# Altium footprint library Miscellaneous Connector PCB.PcbLib: 180 footprints (part 11 of 12)
Each footprint in its own frame and in the unit in brackets; x right, y up, seen from the top. Pads: shape width x height; smd on the part's side, far side on the other; paste and mask are expansions set on the pad; w line width, h text height; cw(c..) or ccw(c..) is an arc to the next point about the centre after c.
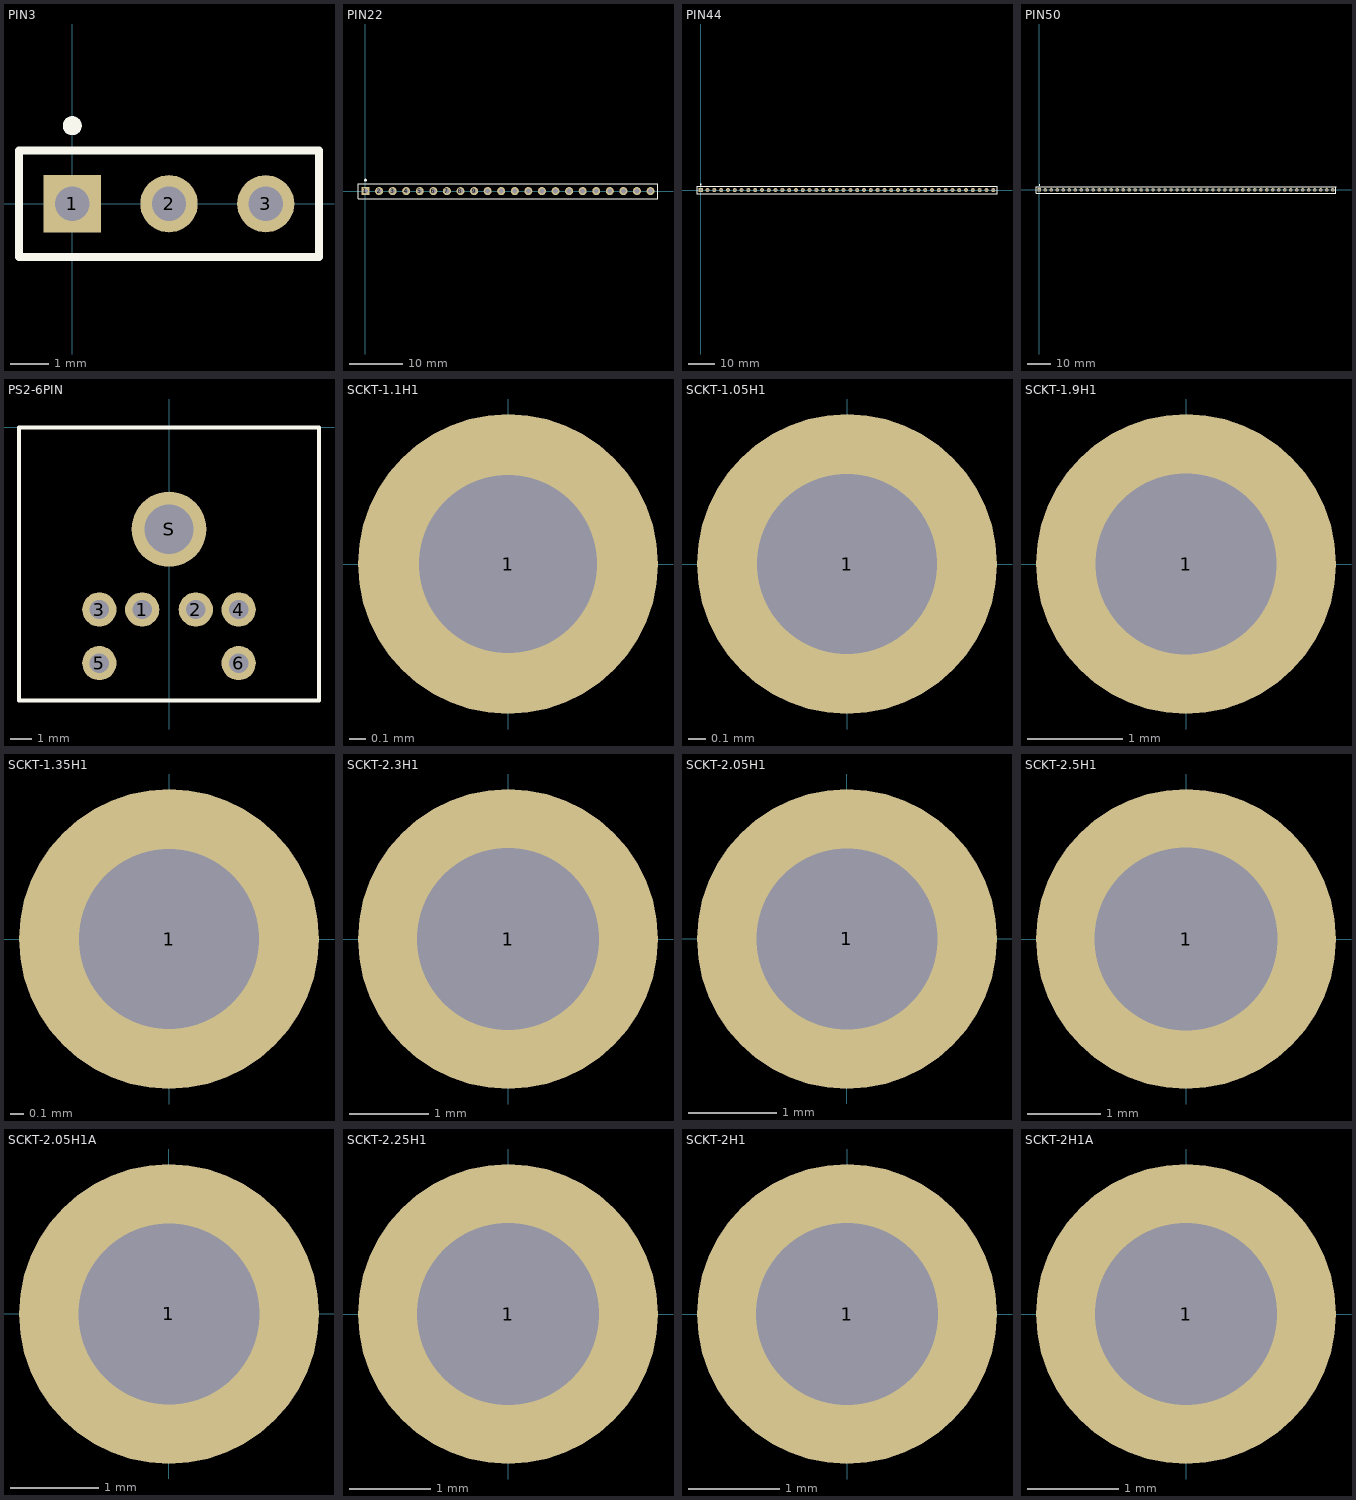
[diagram p10: the footprints below, top view; thin cyan lines are the x and y axes]

## PIN3 [mm]
pads (3):
  rect 1.5x1.5 hole 0.9: 1(0,0)
  oval 1.51x1.5 hole 0.9: 2(2.54,0)
  round 1.5 hole 0.9: 3(5.08,0)
Top Overlay:
  circle w0.25: c0,2.05 r0.125
  lines w0.2: -1.4,-1.4 6.48,-1.4 6.48,1.4 -1.4,1.4 -1.4,-1.4

## PIN22 [mm]
pads (22):
  rect 1.5x1.5 hole 0.9: 1(0,0)
  round 1.5 hole 0.9: 2(2.54,0) 3(5.08,0) 4(7.62,0) 5(10.16,0) 6(12.7,0) 7(15.24,0) 8(17.78,0) 10(22.86,0) 11(25.4,0) 12(27.94,0) 13(30.48,0) 14(33.02,0) 15(35.56,0) 16(38.1,0) 17(40.64,0) 18(43.18,0) 19(45.72,0) 20(48.26,0) 21(50.8,0) 22(53.34,0)
  oval 1.51x1.5 hole 0.9: 9(20.32,0)
Top Overlay:
  circle w0.25: c0,2.05 r0.125
  lines w0.2: -1.4,-1.4 -1.4,1.4 54.74,1.4 54.74,-1.4 -1.4,-1.4

## PIN44 [mm]
pads (44):
  rect 1.5x1.5 hole 0.9: 1(0,0)
  round 1.5 hole 0.9: 2(2.54,0) 3(5.08,0) 4(7.62,0) 5(10.16,0) 6(12.7,0) 7(15.24,0) 8(17.78,0) 10(22.86,0) 11(25.4,0) 12(27.94,0) 13(30.48,0) 14(33.02,0) 15(35.56,0) 16(38.1,0) 17(40.64,0) 18(43.18,0) 19(45.72,0) 20(48.26,0) 21(50.8,0) 22(53.34,0) 23(55.88,0) 24(58.42,0) 25(60.96,0) 26(63.5,0) 27(66.04,0) 28(68.58,0) 29(71.12,0) 30(73.66,0) 31(76.2,0) 32(78.74,0) 33(81.28,0) 34(83.82,0) 35(86.36,0) 36(88.9,0) 37(91.44,0) 38(93.98,0) 39(96.52,0) 40(99.06,0) 41(101.6,0) 42(104.14,0) 43(106.68,0) 44(109.22,0)
  oval 1.51x1.5 hole 0.9: 9(20.32,0)
Top Overlay:
  circle w0.25: c0,2.05 r0.125
  lines w0.2: -1.4,-1.4 -1.4,1.4 110.62,1.4 110.62,-1.4 -1.4,-1.4

## PIN50 [mm]
pads (50):
  rect 1.5x1.5 hole 0.9: 1(0,0)
  round 1.5 hole 0.9: 2(2.54,0) 3(5.08,0) 4(7.62,0) 5(10.16,0) 6(12.7,0) 7(15.24,0) 8(17.78,0) 9(20.32,0) 10(22.86,0) 11(25.4,0) 12(27.94,0) 13(30.48,0) 14(33.02,0) 15(35.56,0) 16(38.1,0) 17(40.64,0) 18(43.18,0) 19(45.72,0) 20(48.26,0) 22(53.34,0) 23(55.88,0) 24(58.42,0) 25(60.96,0) 26(63.5,0) 27(66.04,0) 28(68.58,0) 29(71.12,0) 30(73.66,0) 31(76.2,0) 32(78.74,0) 33(81.28,0) 34(83.82,0) 35(86.36,0) 36(88.9,0) 37(91.44,0) 38(93.98,0) 39(96.52,0) 40(99.06,0) 41(101.6,0) 42(104.14,0) 43(106.68,0) 44(109.22,0) 45(111.76,0) 46(114.3,0) 47(116.84,0) 48(119.38,0) 49(121.92,0) 50(124.46,0)
  oval 1.51x1.5 hole 0.9: 21(50.8,0)
Top Overlay:
  circle w0.25: c0,2.05 r0.125
  lines w0.2: -1.4,-1.4 -1.4,1.4 125.86,1.4 125.86,-1.4 -1.4,-1.4

## PS2-6PIN [mm]
pads (7):
  round 1.6 hole 0.9: 1(-1.25,-8.5) 2(1.25,-8.5) 3(-3.25,-8.5) 4(3.25,-8.5) 5(-3.25,-11) 6(3.25,-11)
  round 3.5 hole 2.3: S(0,-4.75)
Top Overlay:
  lines w0.2: -7,-12.75 -7,0 7,0 7,-12.75 -7,-12.75

## SCKT-1.1H1 [mm]
pads (1):
  round 1.85 hole 1.1: 1(0,0)
Mechanical 15:
  circle w0.1: c0,0 r0.725

## SCKT-1.05H1 [mm]
pads (1):
  round 1.75 hole 1.05: 1(0,0)

## SCKT-1.9H1 [mm]
pads (1):
  round 3.15 hole 1.9: 1(0,0)

## SCKT-1.35H1 [mm]
pads (1):
  round 2.25 hole 1.35: 1(0,0)
Mechanical 15:
  circle w0.1: c0,0 r0.9

## SCKT-2.3H1 [mm]
pads (1):
  round 3.8 hole 2.3: 1(0,0)
Mechanical 15:
  circle w0.1: c0,0 r1.64

## SCKT-2.05H1 [mm]
pads (1):
  round 3.4 hole 2.05: 1(0,0)
Mechanical 15:
  circle w0.1: c0,0 r1.175

## SCKT-2.5H1 [mm]
pads (1):
  round 4.1 hole 2.5: 1(0,0)
Mechanical 15:
  circle w0.1: c0,0 r1.64

## SCKT-2.05H1A [mm]
pads (1):
  round 3.4 hole 2.05: 1(0,0)
Mechanical 15:
  circle w0.1: c0,0 r1.335

## SCKT-2.25H1 [mm]
pads (1):
  round 3.7 hole 2.25: 1(0,0)
Mechanical 15:
  circle w0.1: c0,0 r1.64

## SCKT-2H1 [mm]
pads (1):
  round 3.3 hole 2: 1(0,0)
Mechanical 15:
  circle w0.1: c0,0 r1.175

## SCKT-2H1A [mm]
pads (1):
  round 3.3 hole 2: 1(0,0)
Mechanical 15:
  circle w0.1: c0,0 r1.335